# Altium footprint library UCL1E681MNL1GS.PcbLib: 2 footprints
Each footprint in its own frame and in the unit in brackets; x right, y up, seen from the top. Pads: shape width x height; smd on the part's side, far side on the other; paste and mask are expansions set on the pad; w line width, h text height; cw(c..) or ccw(c..) is an arc to the next point about the centre after c.
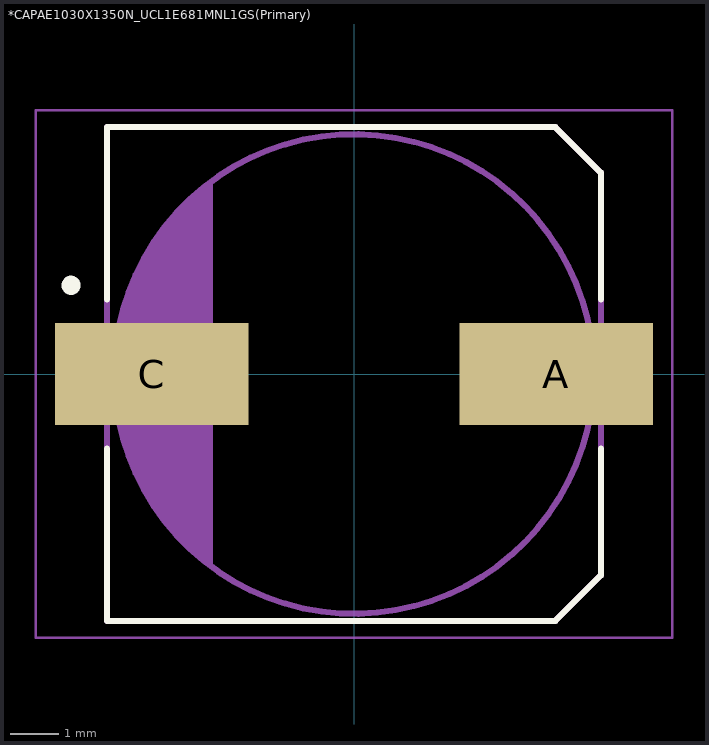
[diagram p0: the footprints below, top view; thin cyan lines are the x and y axes]

## *CAPAE1030X1350N_UCL1E681MNL1GS(Primary) [mm]
pads (2):
  rect 4.04x2.12 smd: A(4.215,0) C(-4.215,0)
Top Overlay:
  circle w0.2: c-5.9,1.85 r0.1
  lines w0.127: -5.15,-1.55 -5.15,-5.15 4.2,-5.15 5.15,-4.2 5.15,-1.55 ; -5.15,1.55 -5.15,5.15 4.2,5.15 5.15,4.2 5.15,1.55
Mechanical 4:
  circle w0.127: c0,0 r5
  circle w0.127: c0,0 r5
  region: -2.95,4.05 -2.95,-4.05 -3.5,-3.55 -3.9,-3.15 -4.25,-2.65 -4.4,-2.4 -4.85,-1.2 -4.95,-0.45 -5,-0.1 -5,0.45 -4.85,1.2 -4.6,1.95 -4.1,2.9 -3.45,3.65
  region: -2.95,4.05 -2.95,-4.05 -3.5,-3.55 -3.9,-3.15 -4.25,-2.65 -4.4,-2.4 -4.85,-1.2 -4.95,-0.45 -5,-0.1 -5,0.45 -4.85,1.2 -4.6,1.95 -4.1,2.9 -3.45,3.65
  lines w0.127: -5.15,-5.15 4.2,-5.15 ; -5.15,-5.15 -5.15,5.15 ; -5.15,-5.15 4.2,-5.15 ; -5.15,-5.15 -5.15,5.15 ; -5.15,5.15 4.2,5.15 ; -5.15,5.15 4.2,5.15 ; 4.2,-5.15 5.15,-4.2 ; 4.2,-5.15 5.15,-4.2 ; 4.2,5.15 5.15,4.2 ; 4.2,5.15 5.15,4.2 ; 5.15,-4.2 5.15,4.2 ; 5.15,-4.2 5.15,4.2
Mechanical 16:
  lines w0.05: -6.635,-5.5 -6.635,5.5 6.635,5.5 6.635,-5.5 -6.635,-5.5

## PCBComponent_1 [mm]